# EAGLE library part LCW-109-XX-X-S (library con-samtec02)
Male Header - LCW Series
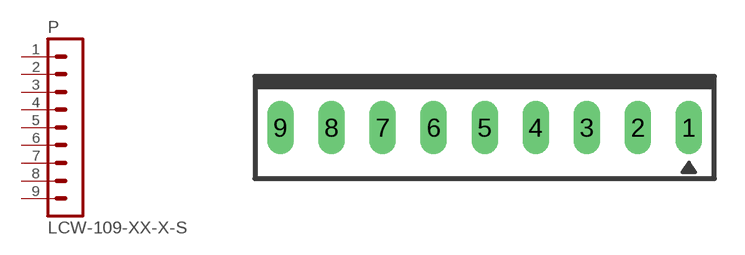
[diagram p22: symbol with the pads of LCW-109-XX-X-S; footprint LCW-109-XX-X-S]

Designator prefix P

## LCW-109-XX-X-S  [LCW-109-XX-X-S]
1  1  pas
2  2  pas
3  3  pas
4  4  pas
5  5  pas
6  6  pas
7  7  pas
8  8  pas
9  9  pas

## Footprint LCW-109-XX-X-S (pad centres in mm)
Samtec LCW Series friction lock strips, 0.025" square pins
drill 0.813 long: 1 10.16,0; 2 7.62,0; 3 5.08,0; 4 2.54,0; 5 0,0; 6 -2.54,0; 7 -5.08,0; 8 -7.62,0; 9 -10.16,0